# Altium footprint library MainLib.PcbLib: 20 footprints (part 2 of 2)
Each footprint in its own frame and in the unit in brackets; x right, y up, seen from the top. Pads: shape width x height; smd on the part's side, far side on the other; paste and mask are expansions set on the pad; w line width, h text height; cw(c..) or ccw(c..) is an arc to the next point about the centre after c.
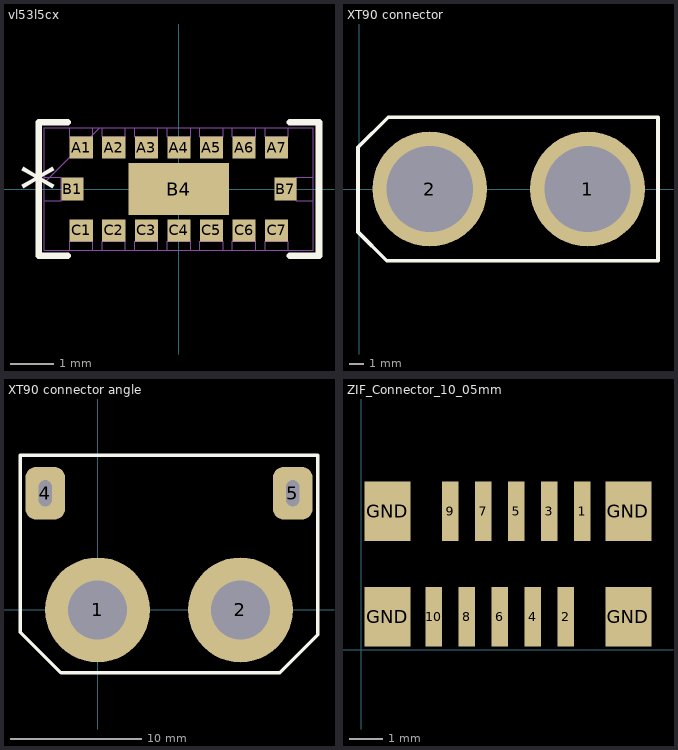
[diagram p1: the footprints below, top view; thin cyan lines are the x and y axes]

## vl53l5cx [mil]
pads (17):
  rect 21x20 smd paste+0 mask+0: A1(-88.58,37.5) A2(-59.06,37.5) A3(-29.53,37.5) A4(0,37.5) A5(29.53,37.5) A6(59.06,37.5) A7(88.58,37.5) C1(-88.58,-37.5) C2(-59.06,-37.5) C3(-29.53,-37.5) C4(0,-37.5) C5(29.53,-37.5) C6(59.06,-37.5) C7(88.58,-37.5)
  rect 20x21 smd paste+0 mask+0: B1(-96.5,0) B7(96.5,0)
  rect 91x47 smd paste+0 mask+0: B4(0,0)
Top Overlay:
  lines w6: -100.7,-60.5 -127,-60.5 -127,60.5 -100.7,60.5 ; 100.7,-60.5 127,-60.5 127,60.5 100.7,60.5
  text "*" at -145,-25 h50
Mechanical 13:
  lines w1: -122,5.5 -72,55.5 ; -122,-55.5 -122,55.5 122,55.5 122,-55.5 -122,-55.5 ; -122,-10.5 -106.5,-10.5 -106.5,10.5 -122,10.5 -122,-10.5 ; -99.08,-55.5 -99.08,-47.5 -78.08,-47.5 -78.08,-55.5 -99.08,-55.5 ; -99.08,47.5 -99.08,55.5 -78.08,55.5 -78.08,47.5 -99.08,47.5 ; -69.56,-55.5 -69.56,-47.5 -48.56,-47.5 -48.56,-55.5 -69.56,-55.5 ; -69.56,47.5 -69.56,55.5 -48.56,55.5 -48.56,47.5 -69.56,47.5 ; -40.03,-55.5 -40.03,-47.5 -19.03,-47.5 -19.03,-55.5 -40.03,-55.5 ; -40.03,47.5 -40.03,55.5 -19.03,55.5 -19.03,47.5 -40.03,47.5 ; -10.5,-55.5 -10.5,-47.5 10.5,-47.5 10.5,-55.5 -10.5,-55.5 ; -10.5,47.5 -10.5,55.5 10.5,55.5 10.5,47.5 -10.5,47.5 ; 19.03,-55.5 19.03,-47.5 40.03,-47.5 40.03,-55.5 19.03,-55.5 ; 19.03,47.5 19.03,55.5 40.03,55.5 40.03,47.5 19.03,47.5 ; 48.56,-55.5 48.56,-47.5 69.56,-47.5 69.56,-55.5 48.56,-55.5 ; 48.56,47.5 48.56,55.5 69.56,55.5 69.56,47.5 48.56,47.5 ; 78.08,-55.5 78.08,-47.5 99.08,-47.5 99.08,-55.5 78.08,-55.5 ; 78.08,47.5 78.08,55.5 99.08,55.5 99.08,47.5 78.08,47.5 ; 106.5,-10.5 106.5,10.5 122,10.5 122,-10.5 106.5,-10.5
3D body: height 10, standoff 0, extent 0,0 10,10
3D body "LGA_CXV0GC1_STM.step": height 65.12, standoff 0, extent -122.01,-55.51 122.01,55.51

## XT90 connector [mm]
pads (2):
  round 8 hole 6: 1(15.9,0) 2(4.9,0)
Top Overlay:
  lines w0.254: -0.1,-3 -0.1,2.9 2,5 20.8,5 20.8,0 20.8,-5 1.9,-5 -0.1,-3
3D body "XT90H-M SBORKA PART.STEP": height 21.8, standoff -4.4, extent -0.1,-5.4 20.9,5.4

## XT90 connector angle [mm]
pads (4):
  round 8 hole 4.5: 1(0,0) 2(10.9,0)
  rrect50% 3x4 hole 1 slot 2 at 90 deg: 4(-4,8.9) 5(14.9,8.9)
Top Overlay:
  lines w0.254: -5.9,-1.7 -2.8,-4.8 13.9,-4.8 16.8,-1.9 16.8,11.8 -5.9,11.8 -5.9,-1.7
3D body "XT90PW-F.STEP": height 10.1, standoff -2.7, extent -4.85,-2.5 15.85,24.7

## ZIF_Connector_10_05mm [mm]
pads (14):
  rect 0.5x1.8 smd: 1(6.7,4.2) 2(6.2,1) 3(5.7,4.2) 4(5.2,1) 5(4.7,4.2) 6(4.2,1) 7(3.7,4.2) 8(3.2,1) 9(2.7,4.2) 10(2.2,1)
  rect 1.4x1.8 smd: GND(0.8,1) GND(0.8,4.2) GND(8.1,1) GND(8.1,4.2)